# Altium schematic symbol library PIC18F57Q43-IPT.SchLib: 2 symbols
Pins are listed as number, name and electrical type; pins without a type are passive.

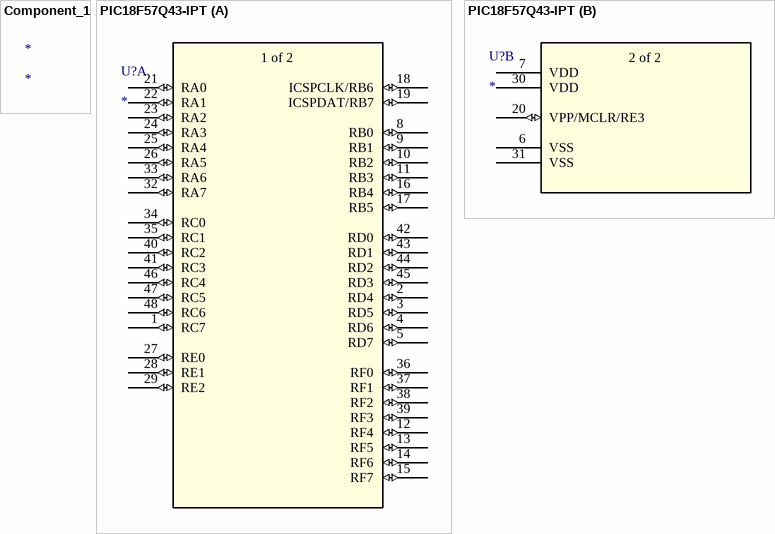
[diagram p0: symbols Component_1 to PIC18F57Q43-IPT]

## Component_1
designator *

## PIC18F57Q43-IPT
designator U?
No Description Available; Mfr_Name: Microchip; RefDes: RefDes; Type: Type
footprint TQFP48_PT_MCH
part A pins: 1 RC7 (io), 2 RD4 (io), 3 RD5 (io), 4 RD6 (io), 5 RD7 (io), 8 RB0 (io), 9 RB1 (io), 10 RB2 (io), 11 RB3 (io), 12 RF4 (io), 13 RF5 (io), 14 RF6 (io), 15 RF7 (io), 16 RB4 (io), 17 RB5 (io), 18 ICSPCLK/RB6 (io), 19 ICSPDAT/RB7 (io), 21 RA0 (io), 22 RA1 (io), 23 RA2 (io), 24 RA3 (io), 25 RA4 (io), 26 RA5 (io), 27 RE0 (io), 28 RE1 (io), 29 RE2 (io), 32 RA7 (io), 33 RA6 (io), 34 RC0 (io), 35 RC1 (io), 36 RF0 (io), 37 RF1 (io), 38 RF2 (io), 39 RF3 (io), 40 RC2 (io), 41 RC3 (io), 42 RD0 (io), 43 RD1 (io), 44 RD2 (io), 45 RD3 (io), 46 RC4 (io), 47 RC5 (io), 48 RC6 (io)
part B pins: 6 VSS (power), 7 VDD (power), 20 VPP/MCLR/RE3 (io), 30 VDD (power), 31 VSS (power)
part A text: 1 of 2
part B text: 2 of 2